# Altium schematic symbol library HBRIDGE_SCH_LIB.SchLib: 20 symbols
Pins are listed as number, name and electrical type; pins without a type are passive.

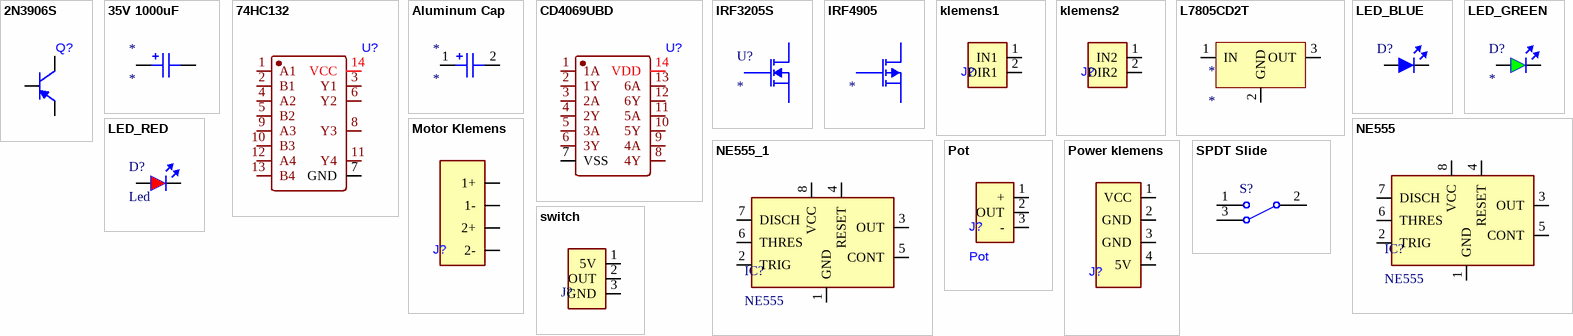
[diagram p0: symbols 2N3906S to switch]

## 2N3906S
designator Q?
footprint SOT23-3
pins: 1 B, 2 E, 3 C

## 35V 1000uF
designator *
footprint 35V 1000uF
pins: 1 in, 2 out

## 74HC132
designator U?
footprint SOIC14
pins: 1 A1, 2 B1, 3 Y1, 4 A2, 5 B2, 6 Y2, 7 GND, 8 Y3, 9 A3, 10 B3, 11 Y4, 12 A4, 13 B4, 14 VCC

## Aluminum Cap
designator *
footprint Aluminum Cap
pins: 1 in, 2 out

## CD4069UBD
designator U?
footprint SOIC14
pins: 1 1A, 2 1Y, 3 2A, 4 2Y, 5 3A, 6 3Y, 7 VSS, 8 4Y, 9 4A, 10 5Y, 11 5A, 12 6Y, 13 6A, 14 VDD

## IRF3205S
designator U?
footprint IRF4905
pins: 1 G, 2 D, 3 S

## IRF4905
designator ?
footprint IRF4905
pins: 1 G, 2 D, 3 S

## klemens1
designator J?
footprint Klemens
pins: 1 IN1, 2 DIR1

## klemens2
designator J?
footprint Klemens
pins: 1 IN2, 2 DIR2

## L7805CD2T
designator *
footprint IRF4905
pins: 1 IN, 2 GND, 3 OUT

## LED_BLUE
designator D?
footprint LED_GREEN
pins: 1 IN, 2 OUT

## LED_GREEN
designator D?
footprint LED_GREEN
pins: 1 IN, 2 OUT

## LED_RED
designator D?, comment Led
footprint LED_GREEN
pins: 1 IN, 2 OUT

## Motor Klemens
designator J?
footprint Power Klemens
pins: 1 1+, 2 1-, 3 2+, 4 2-

## NE555
designator IC?
footprint NE5532-SOIC8 (SOIC, 8-Leads, Body 4,91x3,91mm, Pitch 1,27mm, IPC Medium Density)
pins: 1 GND, 2 TRIG, 3 OUT, 4 RESET, 5 CONT, 6 THRES, 7 DISCH, 8 VCC

## NE555_1
designator IC?, comment NE555
footprint NE5532-SOIC8 (SOIC, 8-Leads, Body 4,91x3,91mm, Pitch 1,27mm, IPC Medium Density)
pins: 1 GND, 2 TRIG, 3 OUT, 4 RESET, 5 CONT, 6 THRES, 7 DISCH, 8 VCC

## Pot
designator J?
footprint JST-XH 2.54
pins: 1 +, 2 OUT, 3 -

## Power klemens
designator J?
footprint Power Klemens
pins: 1 VCC, 2 GND, 3 GND, 4 5V

## SPDT Slide
designator S?
footprint SPDT
pins: 1 PWM, 2 0, 3 MCU

## switch
designator J?, comment Switch  (value not drawn)
footprint JST-XH 2.54 - duplicate
pins: 1 5V, 2 OUT, 3 GND